# Altium integrated library Oscillators - Crystals.IntLib: 746 symbols (part 17 of 17)
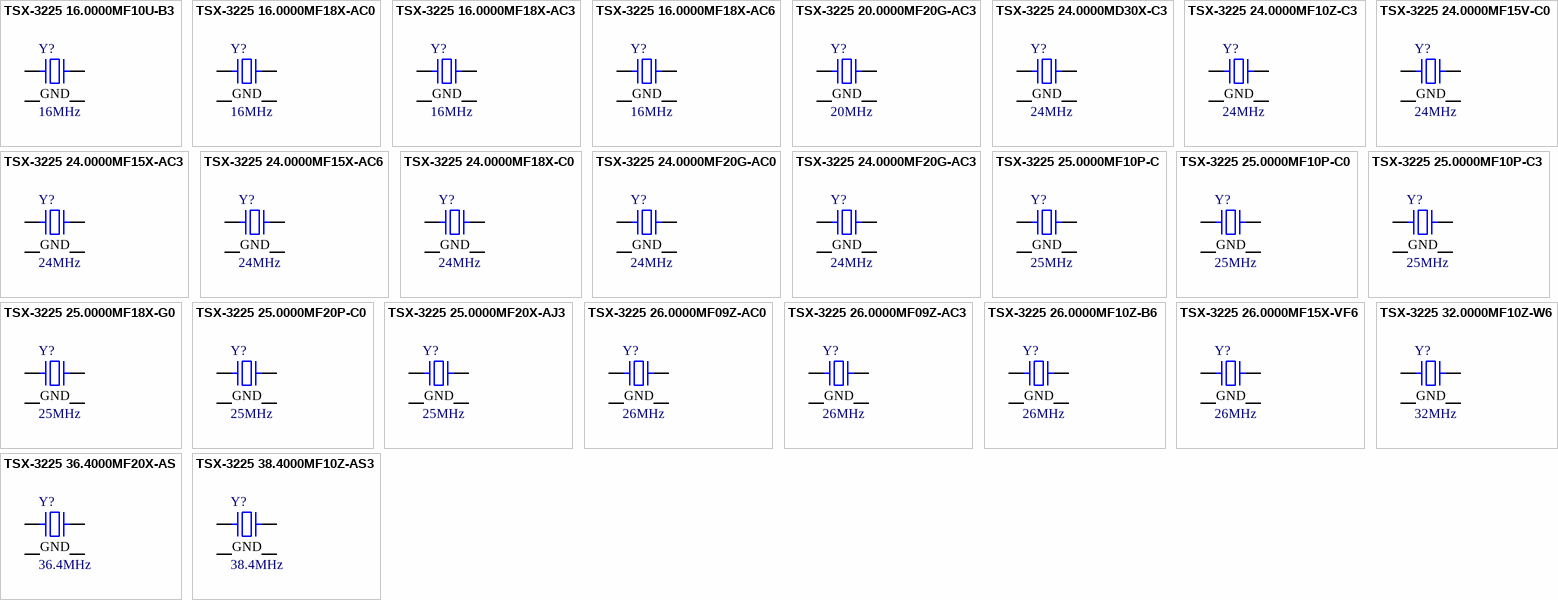
[diagram p34: symbols TSX-3225 16.0000MF10U-B3 to TSX-3225 38.4000MF10Z-AS3]

## TSX-3225 16.0000MF18X-AC3
designator Y?, comment 16MHz
CRYSTAL 16.0000MHZ 9PF SMD; Part Number: TSX-3225 16.0000MF18X-AC3; Manufacturer: EPSON; ESR (Equivalent Series Resistance): 60 Ohms; Frequency Stability: ±18ppm; Frequency Tolerance: ±10ppm; Operating Mode: Fundamental; ComponentLink1Description: Datasheet; ComponentLink1URL: https://support.epson.biz/td/api/doc_check.php?dl=brief_TSX-3225&lang=en; ComponentLink2Description: DigiKey Link; ComponentLink2URL: http://digikey.com/product-detail/en/epson/TSX-3225-16.0000MF18X-AC3/SER3636CT-ND/1825448; Frequency: 16MHz; Height - Seated (Max): 0.024" (0.60mm); LastUpdated: 9/2/2020 1:21:55 AM; Lifecycle Status: Active; Load Capacitance: 9pF; Minimum Order: 1; Mounting Type: Surface Mount; Operating Temperature: -40°C ~ 85°C; Package / Case: 4-SMD, No Lead; Packaging: TapeAndReel; PartId: 443; Part Status: Active; Price: 0.22; Series: TSX-3225; Size / Dimension: 0.126" L x 0.098" W (3.20mm x 2.50mm); Supplier 1: DigiKey; Supplier Part Number 1: SER3636CT-ND; Type: MHz Crystal; Value: 16MHz
footprint EPSON TSX-3225
pins: 1, 2 GND, 3, 4 GND

## TSX-3225 16.0000MF18X-AC6
designator Y?, comment 16MHz
CRYSTAL 16.00 MHZ 9.0PF SMD; Part Number: TSX-3225 16.0000MF18X-AC6; Manufacturer: EPSON; ESR (Equivalent Series Resistance): 60 Ohms; Frequency Stability: ±18ppm; Frequency Tolerance: ±10ppm; Load Capacitance: 9pF; Operating Mode: Fundamental; ComponentLink1Description: Datasheet; ComponentLink1URL: https://support.epson.biz/td/api/doc_check.php?dl=brief_TSX-3225&lang=en; ComponentLink2Description: DigiKey Link; ComponentLink2URL: http://digikey.com/product-detail/en/epson/TSX-3225-16.0000MF18X-AC6/SER4372CT-ND/7932356; Frequency: 16MHz; Height - Seated (Max): 0.024" (0.60mm); LastUpdated: 9/2/2020 1:21:55 AM; Lifecycle Status: Active; Minimum Order: 1; Mounting Type: Surface Mount; Operating Temperature: -40°C ~ 85°C; Package / Case: 4-SMD, No Lead; Packaging: TapeAndReel; PartId: 434; Part Status: Active; Price: 0.18; Series: TSX-3225; Size / Dimension: 0.126" L x 0.098" W (3.20mm x 2.50mm); Supplier 1: DigiKey; Supplier Part Number 1: SER4372CT-ND; Type: MHz Crystal; Value: 16MHz
footprint EPSON TSX-3225
pins: 1, 2 GND, 3, 4 GND

## TSX-3225 20.0000MF20G-AC3
designator Y?, comment 20MHz
CRYSTAL 20.0000MHZ 9PF SMD; Part Number: TSX-3225 20.0000MF20G-AC3; Manufacturer: EPSON; ESR (Equivalent Series Resistance): 60 Ohms; Frequency Stability: ±20ppm; Frequency Tolerance: ±10ppm; Operating Mode: Fundamental; ComponentLink1Description: Datasheet; ComponentLink1URL: https://support.epson.biz/td/api/doc_check.php?dl=brief_TSX-3225&lang=en; ComponentLink2Description: DigiKey Link; ComponentLink2URL: http://digikey.com/product-detail/en/epson/TSX-3225-20.0000MF20G-AC3/SER3629CT-ND/1802880; Frequency: 20MHz; Height - Seated (Max): 0.024" (0.60mm); LastUpdated: 9/2/2020 1:21:54 AM; Lifecycle Status: Active; Load Capacitance: 9pF; Minimum Order: 1; Mounting Type: Surface Mount; Operating Temperature: -40°C ~ 105°C; Package / Case: 4-SMD, No Lead; Packaging: TapeAndReel; PartId: 453; Part Status: Active; Price: 0.22; Series: TSX-3225; Size / Dimension: 0.126" L x 0.098" W (3.20mm x 2.50mm); Supplier 1: DigiKey; Supplier Part Number 1: SER3629CT-ND; Type: MHz Crystal; Value: 20MHz
footprint EPSON TSX-3225
pins: 1, 2 GND, 3, 4 GND

## TSX-3225 24.0000MD30X-C3
designator Y?, comment 24MHz
CRYSTAL 24.00MHZ 18PF SMD; Part Number: TSX-3225 24.0000MD30X-C3; Manufacturer: EPSON; ESR (Equivalent Series Resistance): 60 Ohms; Frequency Stability: ±30ppm; Operating Mode: Fundamental; ComponentLink1Description: Datasheet; ComponentLink1URL: https://support.epson.biz/td/api/doc_check.php?dl=brief_TSX-3225&lang=en; ComponentLink2Description: DigiKey Link; ComponentLink2URL: http://digikey.com/product-detail/en/epson/TSX-3225-24.0000MD30X-C3/SER4127CT-ND/6217482; Frequency: 24MHz; Frequency Tolerance: ±30ppm; Height - Seated (Max): 0.024" (0.60mm); LastUpdated: 9/2/2020 1:21:54 AM; Lifecycle Status: Active; Load Capacitance: 18pF; Minimum Order: 1; Mounting Type: Surface Mount; Operating Temperature: -40°C ~ 85°C; Package / Case: 4-SMD, No Lead; Packaging: TapeAndReel; PartId: 452; Part Status: Active; Price: 0.40; Series: TSX-3225; Size / Dimension: 0.126" L x 0.098" W (3.20mm x 2.50mm); Supplier 1: DigiKey; Supplier Part Number 1: SER4127CT-ND; Type: MHz Crystal; Value: 24MHz
footprint EPSON TSX-3225
pins: 1, 2 GND, 3, 4 GND

## TSX-3225 24.0000MF10Z-C3
designator Y?, comment 24MHz
CRYSTAL 24.00 MHZ 18PFSMD; Part Number: TSX-3225 24.0000MF10Z-C3; Manufacturer: EPSON; ESR (Equivalent Series Resistance): 40 Ohms; Frequency Stability: ±10ppm; Load Capacitance: 18pF; Operating Mode: Fundamental; ComponentLink1Description: Datasheet; ComponentLink1URL: https://support.epson.biz/td/api/doc_check.php?dl=brief_TSX-3225&lang=en; ComponentLink2Description: DigiKey Link; ComponentLink2URL: http://digikey.com/product-detail/en/epson/TSX-3225-24.0000MF10Z-C3/SER4373CT-ND/7932357; Frequency: 24MHz; Frequency Tolerance: ±10ppm; Height - Seated (Max): 0.024" (0.60mm); LastUpdated: 9/2/2020 1:21:55 AM; Lifecycle Status: Active; Minimum Order: 1; Mounting Type: Surface Mount; Operating Temperature: -20°C ~ 75°C; Package / Case: 4-SMD, No Lead; Packaging: TapeAndReel; PartId: 430; Part Status: Active; Price: 0.22; Series: TSX-3225; Size / Dimension: 0.126" L x 0.098" W (3.20mm x 2.50mm); Supplier 1: DigiKey; Supplier Part Number 1: SER4373CT-ND; Type: MHz Crystal; Value: 24MHz
footprint EPSON TSX-3225
pins: 1, 2 GND, 3, 4 GND

## TSX-3225 24.0000MF15V-C0
designator Y?, comment 24MHz
CRYSTAL 24.0000MHZ 18PF SMD; Part Number: TSX-3225 24.0000MF15V-C0; Manufacturer: EPSON; ESR (Equivalent Series Resistance): 40 Ohms; Frequency Tolerance: ±10ppm; Operating Mode: Fundamental; ComponentLink1Description: Datasheet; ComponentLink1URL: https://support.epson.biz/td/api/doc_check.php?dl=brief_TSX-3225&lang=en; ComponentLink2Description: DigiKey Link; ComponentLink2URL: http://digikey.com/product-detail/en/epson/TSX-3225-24.0000MF15V-C0/SER4209CT-ND/7430964; Frequency: 24MHz; Height - Seated (Max): 0.024" (0.60mm); LastUpdated: 9/2/2020 1:21:54 AM; Lifecycle Status: Active; Load Capacitance: 18pF; Minimum Order: 1; Mounting Type: Surface Mount; Package / Case: 4-SMD, No Lead; Packaging: TapeAndReel; PartId: 449; Part Status: Active; Price: 0.18; Series: TSX-3225; Size / Dimension: 0.126" L x 0.098" W (3.20mm x 2.50mm); Supplier 1: DigiKey; Supplier Part Number 1: SER4209CT-ND; Type: MHz Crystal; Value: 24MHz
footprint EPSON TSX-3225
pins: 1, 2 GND, 3, 4 GND

## TSX-3225 24.0000MF15X-AC3
designator Y?, comment 24MHz
CRYSTAL 24.0000MHZ 9PF SMD; Part Number: TSX-3225 24.0000MF15X-AC3; Manufacturer: EPSON; ESR (Equivalent Series Resistance): 40 Ohms; Frequency Stability: ±15ppm; Frequency Tolerance: ±10ppm; Operating Mode: Fundamental; ComponentLink1Description: Datasheet; ComponentLink1URL: https://support.epson.biz/td/api/doc_check.php?dl=brief_TSX-3225&lang=en; ComponentLink2Description: DigiKey Link; ComponentLink2URL: http://digikey.com/product-detail/en/epson/TSX-3225-24.0000MF15X-AC3/SER3635CT-ND/1825447; Frequency: 24MHz; Height - Seated (Max): 0.024" (0.60mm); LastUpdated: 9/2/2020 1:21:55 AM; Lifecycle Status: Active; Load Capacitance: 9pF; Minimum Order: 1; Mounting Type: Surface Mount; Operating Temperature: -40°C ~ 85°C; Package / Case: 4-SMD, No Lead; Packaging: TapeAndReel; PartId: 441; Part Status: Active; Price: 0.22; Series: TSX-3225; Size / Dimension: 0.126" L x 0.098" W (3.20mm x 2.50mm); Supplier 1: DigiKey; Supplier Part Number 1: SER3635CT-ND; Type: MHz Crystal; Value: 24MHz
footprint EPSON TSX-3225
pins: 1, 2 GND, 3, 4 GND

## TSX-3225 24.0000MF15X-AC6
designator Y?, comment 24MHz
CRYSTAL 24.00 MHZ 9.0PF SMD; Part Number: TSX-3225 24.0000MF15X-AC6; Manufacturer: EPSON; ESR (Equivalent Series Resistance): 40 Ohms; Frequency Stability: ±15ppm; Frequency Tolerance: ±10ppm; Load Capacitance: 9pF; Operating Mode: Fundamental; ComponentLink1Description: Datasheet; ComponentLink1URL: https://support.epson.biz/td/api/doc_check.php?dl=brief_TSX-3225&lang=en; ComponentLink2Description: DigiKey Link; ComponentLink2URL: http://digikey.com/product-detail/en/epson/TSX-3225-24.0000MF15X-AC6/SER4180CT-ND/6558821; Frequency: 24MHz; Height - Seated (Max): 0.024" (0.60mm); LastUpdated: 9/2/2020 1:21:55 AM; Lifecycle Status: Active; Minimum Order: 1; Mounting Type: Surface Mount; Operating Temperature: -40°C ~ 85°C; Package / Case: 4-SMD, No Lead; Packaging: TapeAndReel; PartId: 432; Part Status: Active; Price: 0.18; Series: TSX-3225; Size / Dimension: 0.126" L x 0.098" W (3.20mm x 2.50mm); Supplier 1: DigiKey; Supplier Part Number 1: SER4180CT-ND; Type: MHz Crystal; Value: 24MHz
footprint EPSON TSX-3225
pins: 1, 2 GND, 3, 4 GND

## TSX-3225 24.0000MF18X-C0
designator Y?, comment 24MHz
CRYSTAL 24.0000MHZ 18PF SMD; Part Number: TSX-3225 24.0000MF18X-C0; Manufacturer: EPSON; ESR (Equivalent Series Resistance): 40 Ohms; Frequency Stability: ±18ppm; Frequency Tolerance: ±10ppm; Operating Mode: Fundamental; ComponentLink1Description: Datasheet; ComponentLink1URL: https://support.epson.biz/td/api/doc_check.php?dl=brief_TSX-3225&lang=en; ComponentLink2Description: DigiKey Link; ComponentLink2URL: http://digikey.com/product-detail/en/epson/TSX-3225-24.0000MF18X-C0/SER4210CT-ND/7430965; Frequency: 24MHz; Height - Seated (Max): 0.024" (0.60mm); LastUpdated: 9/2/2020 1:21:54 AM; Lifecycle Status: Active; Load Capacitance: 18pF; Minimum Order: 1; Mounting Type: Surface Mount; Operating Temperature: -40°C ~ 85°C; Package / Case: 4-SMD, No Lead; Packaging: TapeAndReel; PartId: 448; Part Status: Active; Price: 0.18; Series: TSX-3225; Size / Dimension: 0.126" L x 0.098" W (3.20mm x 2.50mm); Supplier 1: DigiKey; Supplier Part Number 1: SER4210CT-ND; Type: MHz Crystal; Value: 24MHz
footprint EPSON TSX-3225
pins: 1, 2 GND, 3, 4 GND

## TSX-3225 24.0000MF20G-AC0
designator Y?, comment 24MHz
CRYSTAL 24.0000MHZ 9PF SMD; Part Number: TSX-3225 24.0000MF20G-AC0; Manufacturer: EPSON; ESR (Equivalent Series Resistance): 40 Ohms; Frequency Stability: ±20ppm; Frequency Tolerance: ±10ppm; Operating Mode: Fundamental; ComponentLink1Description: Datasheet; ComponentLink1URL: https://support.epson.biz/td/api/doc_check.php?dl=brief_TSX-3225&lang=en; ComponentLink2Description: DigiKey Link; ComponentLink2URL: http://digikey.com/product-detail/en/epson/TSX-3225-24.0000MF20G-AC0/SER4185CT-ND/6614145; Frequency: 24MHz; Height - Seated (Max): 0.024" (0.60mm); LastUpdated: 9/2/2020 1:21:54 AM; Lifecycle Status: Active; Load Capacitance: 9pF; Minimum Order: 1; Mounting Type: Surface Mount; Operating Temperature: -40°C ~ 105°C; Package / Case: 4-SMD, No Lead; Packaging: TapeAndReel; PartId: 454; Part Status: Active; Price: 0.18; Series: TSX-3225; Size / Dimension: 0.126" L x 0.098" W (3.20mm x 2.50mm); Supplier 1: DigiKey; Supplier Part Number 1: SER4185CT-ND; Type: MHz Crystal; Value: 24MHz
footprint EPSON TSX-3225
pins: 1, 2 GND, 3, 4 GND

## TSX-3225 24.0000MF20G-AC3
designator Y?, comment 24MHz
CRYSTAL 24.0000MHZ 9PF SMD; Part Number: TSX-3225 24.0000MF20G-AC3; Manufacturer: EPSON; ESR (Equivalent Series Resistance): 40 Ohms; Frequency Stability: ±20ppm; Frequency Tolerance: ±10ppm; Operating Mode: Fundamental; ComponentLink1Description: Datasheet; ComponentLink1URL: https://support.epson.biz/td/api/doc_check.php?dl=brief_TSX-3225&lang=en; ComponentLink2Description: DigiKey Link; ComponentLink2URL: http://digikey.com/product-detail/en/epson/TSX-3225-24.0000MF20G-AC3/SER3634CT-ND/1825446; Frequency: 24MHz; Height - Seated (Max): 0.024" (0.60mm); LastUpdated: 9/2/2020 1:21:55 AM; Lifecycle Status: Active; Load Capacitance: 9pF; Minimum Order: 1; Mounting Type: Surface Mount; Operating Temperature: -40°C ~ 105°C; Package / Case: 4-SMD, No Lead; Packaging: TapeAndReel; PartId: 440; Part Status: Active; Price: 0.22; Series: TSX-3225; Size / Dimension: 0.126" L x 0.098" W (3.20mm x 2.50mm); Supplier 1: DigiKey; Supplier Part Number 1: SER3634CT-ND; Type: MHz Crystal; Value: 24MHz
footprint EPSON TSX-3225
pins: 1, 2 GND, 3, 4 GND

## TSX-3225 25.0000MF10P-C
designator Y?, comment 25MHz
CRYSTAL 25.0000MHZ 18PF SMD; Part Number: TSX-3225 25.0000MF10P-C; Manufacturer: EPSON; ESR (Equivalent Series Resistance): 40 Ohms; Frequency Stability: ±10ppm; Operating Mode: Fundamental; ComponentLink1Description: Datasheet; ComponentLink1URL: https://support.epson.biz/td/api/doc_check.php?dl=brief_TSX-3225&lang=en; ComponentLink2Description: DigiKey Link; ComponentLink2URL: http://digikey.com/product-detail/en/epson/TSX-3225-25.0000MF10P-C/TSX-322525.0000MF10P-C-ND/7731870; Frequency: 25MHz; Frequency Tolerance: ±10ppm; Height - Seated (Max): 0.024" (0.60mm); LastUpdated: 9/2/2020 1:21:54 AM; Lifecycle Status: Active; Load Capacitance: 18pF; Minimum Order: 1; Mounting Type: Surface Mount; Package / Case: 4-SMD, No Lead; Packaging: Unknown; PartId: 455; Part Status: Active; Price: 0.33; Series: TSX-3225; Size / Dimension: 0.126" L x 0.098" W (3.20mm x 2.50mm); Supplier 1: DigiKey; Supplier Part Number 1: TSX-322525.0000MF10P-C-ND; Type: MHz Crystal; Value: 25MHz
footprint EPSON TSX-3225
pins: 1, 2 GND, 3, 4 GND

## TSX-3225 25.0000MF10P-C0
designator Y?, comment 25MHz
CRYSTAL 25.0000MHZ 18PF SMD; Part Number: TSX-3225 25.0000MF10P-C0; Manufacturer: EPSON; ESR (Equivalent Series Resistance): 40 Ohms; Frequency Stability: ±10ppm; Operating Mode: Fundamental; ComponentLink1Description: Datasheet; ComponentLink1URL: https://support.epson.biz/td/api/doc_check.php?dl=brief_TSX-3225&lang=en; ComponentLink2Description: DigiKey Link; ComponentLink2URL: http://digikey.com/product-detail/en/epson/TSX-3225-25.0000MF10P-C0/SER4211CT-ND/7430966; Frequency: 25MHz; Frequency Tolerance: ±10ppm; Height - Seated (Max): 0.024" (0.60mm); LastUpdated: 9/2/2020 1:21:54 AM; Lifecycle Status: Active; Load Capacitance: 18pF; Minimum Order: 1; Mounting Type: Surface Mount; Operating Temperature: -20°C ~ 85°C; Package / Case: 4-SMD, No Lead; Packaging: TapeAndReel; PartId: 450; Part Status: Active; Price: 0.18; Series: TSX-3225; Size / Dimension: 0.126" L x 0.098" W (3.20mm x 2.50mm); Supplier 1: DigiKey; Supplier Part Number 1: SER4211CT-ND; Type: MHz Crystal; Value: 25MHz
footprint EPSON TSX-3225
pins: 1, 2 GND, 3, 4 GND

## TSX-3225 25.0000MF10P-C3
designator Y?, comment 25MHz
CRYSTAL 25.00 MHZ 18.0PF SMD; Part Number: TSX-3225 25.0000MF10P-C3; Manufacturer: EPSON; ESR (Equivalent Series Resistance): 40 Ohms; Frequency Stability: ±10ppm; Load Capacitance: 18pF; Operating Mode: Fundamental; ComponentLink1Description: Datasheet; ComponentLink1URL: https://support.epson.biz/td/api/doc_check.php?dl=brief_TSX-3225&lang=en; ComponentLink2Description: DigiKey Link; ComponentLink2URL: http://digikey.com/product-detail/en/epson/TSX-3225-25.0000MF10P-C3/SER4374CT-ND/7932358; Frequency: 25MHz; Frequency Tolerance: ±10ppm; Height - Seated (Max): 0.024" (0.60mm); LastUpdated: 9/2/2020 1:21:54 AM; Lifecycle Status: Active; Minimum Order: 1; Mounting Type: Surface Mount; Operating Temperature: -20°C ~ 85°C; Package / Case: 4-SMD, No Lead; Packaging: TapeAndReel; PartId: 445; Part Status: Active; Price: 0.22; Series: TSX-3225; Size / Dimension: 0.126" L x 0.098" W (3.20mm x 2.50mm); Supplier 1: DigiKey; Supplier Part Number 1: SER4374CT-ND; Type: MHz Crystal; Value: 25MHz
footprint EPSON TSX-3225
pins: 1, 2 GND, 3, 4 GND

## TSX-3225 25.0000MF18X-G0
designator Y?, comment 25MHz
CRYSTAL 25.00 MHZ 20.0PF SMD; Part Number: TSX-3225 25.0000MF18X-G0; Manufacturer: EPSON; ESR (Equivalent Series Resistance): 40 Ohms; Frequency Stability: ±18ppm; Frequency Tolerance: ±10ppm; Load Capacitance: 20pF; Operating Mode: Fundamental; ComponentLink1Description: Datasheet; ComponentLink1URL: https://support.epson.biz/td/api/doc_check.php?dl=brief_TSX-3225&lang=en; ComponentLink2Description: DigiKey Link; ComponentLink2URL: http://digikey.com/product-detail/en/epson/TSX-3225-25.0000MF18X-G0/SER4375CT-ND/7932359; Frequency: 25MHz; Height - Seated (Max): 0.024" (0.60mm); LastUpdated: 9/2/2020 1:21:55 AM; Lifecycle Status: Active; Minimum Order: 1; Mounting Type: Surface Mount; Operating Temperature: -40°C ~ 85°C; Package / Case: 4-SMD, No Lead; Packaging: TapeAndReel; PartId: 427; Part Status: Active; Price: 0.18; Series: TSX-3225; Size / Dimension: 0.126" L x 0.098" W (3.20mm x 2.50mm); Supplier 1: DigiKey; Supplier Part Number 1: SER4375CT-ND; Type: MHz Crystal; Value: 25MHz
footprint EPSON TSX-3225
pins: 1, 2 GND, 3, 4 GND

## TSX-3225 25.0000MF20P-C0
designator Y?, comment 25MHz
CRYSTAL 25.0000MHZ 18PF SMD; Part Number: TSX-3225 25.0000MF20P-C0; Manufacturer: EPSON; ESR (Equivalent Series Resistance): 40 Ohms; Frequency Stability: ±20ppm; Frequency Tolerance: ±10ppm; Operating Mode: Fundamental; ComponentLink1Description: Datasheet; ComponentLink1URL: https://support.epson.biz/td/api/doc_check.php?dl=brief_TSX-3225&lang=en; ComponentLink2Description: DigiKey Link; ComponentLink2URL: http://digikey.com/product-detail/en/epson/TSX-3225-25.0000MF20P-C0/SER4212CT-ND/7430967; Frequency: 25MHz; Height - Seated (Max): 0.024" (0.60mm); LastUpdated: 9/2/2020 1:21:54 AM; Lifecycle Status: Active; Load Capacitance: 18pF; Minimum Order: 1; Mounting Type: Surface Mount; Operating Temperature: -20°C ~ 85°C; Package / Case: 4-SMD, No Lead; Packaging: TapeAndReel; PartId: 447; Part Status: Active; Price: 0.18; Series: TSX-3225; Size / Dimension: 0.126" L x 0.098" W (3.20mm x 2.50mm); Supplier 1: DigiKey; Supplier Part Number 1: SER4212CT-ND; Type: MHz Crystal; Value: 25MHz
footprint EPSON TSX-3225
pins: 1, 2 GND, 3, 4 GND

## TSX-3225 25.0000MF20X-AJ3
designator Y?, comment 25MHz
CRYSTAL 25.00 MHZ 8.0PF SMD; Part Number: TSX-3225 25.0000MF20X-AJ3; Manufacturer: EPSON; ESR (Equivalent Series Resistance): 40 Ohms; Frequency Stability: ±20ppm; Frequency Tolerance: ±10ppm; Load Capacitance: 8pF; Operating Mode: Fundamental; ComponentLink1Description: Datasheet; ComponentLink1URL: https://support.epson.biz/td/api/doc_check.php?dl=brief_TSX-3225&lang=en; ComponentLink2Description: DigiKey Link; ComponentLink2URL: http://digikey.com/product-detail/en/epson/TSX-3225-25.0000MF20X-AJ3/SER4376CT-ND/7932360; Frequency: 25MHz; Height - Seated (Max): 0.024" (0.60mm); LastUpdated: 9/2/2020 1:21:55 AM; Lifecycle Status: Active; Minimum Order: 1; Mounting Type: Surface Mount; Operating Temperature: -40°C ~ 85°C; Package / Case: 4-SMD, No Lead; Packaging: TapeAndReel; PartId: 431; Part Status: Active; Price: 0.22; Series: TSX-3225; Size / Dimension: 0.126" L x 0.098" W (3.20mm x 2.50mm); Supplier 1: DigiKey; Supplier Part Number 1: SER4376CT-ND; Type: MHz Crystal; Value: 25MHz
footprint EPSON TSX-3225
pins: 1, 2 GND, 3, 4 GND

## TSX-3225 26.0000MF09Z-AC0
designator Y?, comment 26MHz
CRYSTAL 26.00 MHZ 9.0PF SMD; Part Number: TSX-3225 26.0000MF09Z-AC0; Manufacturer: EPSON; ESR (Equivalent Series Resistance): 40 Ohms; Frequency Stability: ±9ppm; Frequency Tolerance: ±10ppm; Load Capacitance: 9pF; Operating Mode: Fundamental; ComponentLink1Description: Datasheet; ComponentLink1URL: https://support.epson.biz/td/api/doc_check.php?dl=brief_TSX-3225&lang=en; ComponentLink2Description: DigiKey Link; ComponentLink2URL: http://digikey.com/product-detail/en/epson/TSX-3225-26.0000MF09Z-AC0/SER4105CT-ND/6204903; Frequency: 26MHz; Height - Seated (Max): 0.024" (0.60mm); LastUpdated: 9/2/2020 1:21:55 AM; Lifecycle Status: Active; Minimum Order: 1; Mounting Type: Surface Mount; Operating Temperature: -20°C ~ 75°C; Package / Case: 4-SMD, No Lead; Packaging: TapeAndReel; PartId: 438; Part Status: Active; Price: 0.18; Series: TSX-3225; Size / Dimension: 0.126" L x 0.098" W (3.20mm x 2.50mm); Supplier 1: DigiKey; Supplier Part Number 1: SER4105CT-ND; Type: MHz Crystal; Value: 26MHz
footprint EPSON TSX-3225
pins: 1, 2 GND, 3, 4 GND

## TSX-3225 26.0000MF09Z-AC3
designator Y?, comment 26MHz
CRYSTAL 26.0000MHZ 9PF SMD; Part Number: TSX-3225 26.0000MF09Z-AC3; Manufacturer: EPSON; ESR (Equivalent Series Resistance): 40 Ohms; Frequency Stability: ±9ppm; Frequency Tolerance: ±10ppm; Operating Mode: Fundamental; ComponentLink1Description: Datasheet; ComponentLink1URL: https://support.epson.biz/td/api/doc_check.php?dl=brief_FA-238V&lang=en; ComponentLink2Description: DigiKey Link; ComponentLink2URL: http://digikey.com/product-detail/en/epson/TSX-3225-26.0000MF09Z-AC3/SER3627CT-ND/1802878; Frequency: 26MHz; Height - Seated (Max): 0.024" (0.60mm); LastUpdated: 9/2/2020 1:21:55 AM; Lifecycle Status: Active; Load Capacitance: 9pF; Minimum Order: 1; Mounting Type: Surface Mount; Operating Temperature: -20°C ~ 75°C; Package / Case: 4-SMD, No Lead; Packaging: TapeAndReel; PartId: 429; Part Status: Active; Price: 0.22; Series: TSX-3225; Size / Dimension: 0.126" L x 0.098" W (3.20mm x 2.50mm); Supplier 1: DigiKey; Supplier Part Number 1: SER3627CT-ND; Type: MHz Crystal; Value: 26MHz
footprint EPSON TSX-3225
pins: 1, 2 GND, 3, 4 GND

## TSX-3225 26.0000MF10Z-B6
designator Y?, comment 26MHz
CRYSTAL 26.0000MHZ 16PF SMD; Part Number: TSX-3225 26.0000MF10Z-B6; Manufacturer: EPSON; ESR (Equivalent Series Resistance): 40 Ohms; Frequency Stability: ±10ppm; Operating Mode: Fundamental; ComponentLink1Description: Datasheet; ComponentLink1URL: https://support.epson.biz/td/api/doc_check.php?dl=brief_TSX-3225&lang=en; ComponentLink2Description: DigiKey Link; ComponentLink2URL: http://digikey.com/product-detail/en/epson/TSX-3225-26.0000MF10Z-B6/SER4213CT-ND/7430968; Frequency: 26MHz; Frequency Tolerance: ±10ppm; Height - Seated (Max): 0.024" (0.60mm); LastUpdated: 9/2/2020 1:21:55 AM; Lifecycle Status: Active; Load Capacitance: 16pF; Minimum Order: 1; Mounting Type: Surface Mount; Operating Temperature: -20°C ~ 75°C; Package / Case: 4-SMD, No Lead; Packaging: TapeAndReel; PartId: 437; Part Status: Active; Price: 0.18; Series: TSX-3225; Size / Dimension: 0.126" L x 0.098" W (3.20mm x 2.50mm); Supplier 1: DigiKey; Supplier Part Number 1: SER4213CT-ND; Type: MHz Crystal; Value: 26MHz
footprint EPSON TSX-3225
pins: 1, 2 GND, 3, 4 GND

## TSX-3225 26.0000MF15X-VF6
designator Y?, comment 26MHz
CRYSTAL 26.00 MHZ 9.8PF SMD; Part Number: TSX-3225 26.0000MF15X-VF6; Manufacturer: EPSON; ESR (Equivalent Series Resistance): 40 Ohms; Frequency Stability: ±15ppm; Frequency Tolerance: ±10ppm; Operating Mode: Fundamental; ComponentLink1Description: Datasheet; ComponentLink1URL: https://support.epson.biz/td/api/doc_check.php?dl=brief_TSX-3225&lang=en; ComponentLink2Description: DigiKey Link; ComponentLink2URL: http://digikey.com/product-detail/en/epson/TSX-3225-26.0000MF15X-VF6/SER4377CT-ND/7932361; Frequency: 26MHz; Height - Seated (Max): 0.024" (0.60mm); LastUpdated: 9/2/2020 1:21:55 AM; Lifecycle Status: Active; Load Capacitance: 9.8pF; Minimum Order: 1; Mounting Type: Surface Mount; Operating Temperature: -40°C ~ 85°C; Package / Case: 4-SMD, No Lead; Packaging: TapeAndReel; PartId: 439; Part Status: Active; Price: 0.18; Series: TSX-3225; Size / Dimension: 0.126" L x 0.098" W (3.20mm x 2.50mm); Supplier 1: DigiKey; Supplier Part Number 1: SER4377CT-ND; Type: MHz Crystal; Value: 26MHz
footprint EPSON TSX-3225
pins: 1, 2 GND, 3, 4 GND

## TSX-3225 32.0000MF10Z-W6
designator Y?, comment 32MHz
CRYSTAL 32.00 MHZ 12.0PF SMD; Part Number: TSX-3225 32.0000MF10Z-W6; Manufacturer: EPSON; ESR (Equivalent Series Resistance): 40 Ohms; Frequency Stability: ±10ppm; Load Capacitance: 12pF; Operating Mode: Fundamental; ComponentLink1Description: Datasheet; ComponentLink1URL: https://support.epson.biz/td/api/doc_check.php?dl=brief_TSX-3225&lang=en; ComponentLink2Description: DigiKey Link; ComponentLink2URL: http://digikey.com/product-detail/en/epson/TSX-3225-32.0000MF10Z-W6/SER4378CT-ND/7932362; Frequency: 32MHz; Frequency Tolerance: ±10ppm; Height - Seated (Max): 0.024" (0.60mm); LastUpdated: 9/2/2020 1:21:55 AM; Lifecycle Status: Active; Minimum Order: 1; Mounting Type: Surface Mount; Operating Temperature: -20°C ~ 75°C; Package / Case: 4-SMD, No Lead; Packaging: TapeAndReel; PartId: 428; Part Status: Active; Price: 0.18; Series: TSX-3225; Size / Dimension: 0.126" L x 0.098" W (3.20mm x 2.50mm); Supplier 1: DigiKey; Supplier Part Number 1: SER4378CT-ND; Type: MHz Crystal; Value: 32MHz
footprint EPSON TSX-3225
pins: 1, 2 GND, 3, 4 GND

## TSX-3225 36.4000MF20X-AS
designator Y?, comment 36.4MHz
CRYSTAL 36.4000MHZ 8.5PF SMD; Part Number: TSX-3225 36.4000MF20X-AS; Manufacturer: EPSON; ESR (Equivalent Series Resistance): 40 Ohms; Frequency Stability: ±20ppm; Frequency Tolerance: ±10ppm; Operating Mode: Fundamental; ComponentLink1Description: Datasheet; ComponentLink1URL: https://support.epson.biz/td/api/doc_check.php?dl=brief_TSX-3225&lang=en; ComponentLink2Description: DigiKey Link; ComponentLink2URL: http://digikey.com/product-detail/en/epson/TSX-3225-36.4000MF20X-AS/SER4214-ND/7430949; Frequency: 36.4MHz; Height - Seated (Max): 0.024" (0.60mm); LastUpdated: 9/2/2020 1:21:54 AM; Lifecycle Status: Active; Load Capacitance: 8.5pF; Minimum Order: 1; Mounting Type: Surface Mount; Operating Temperature: -40°C ~ 85°C; Package / Case: 4-SMD, No Lead; Packaging: Bulk; PartId: 446; Part Status: Active; Price: 0.33; Series: TSX-3225; Size / Dimension: 0.126" L x 0.098" W (3.20mm x 2.50mm); Supplier 1: DigiKey; Supplier Part Number 1: SER4214-ND; Type: MHz Crystal; Value: 36.4MHz
footprint EPSON TSX-3225
pins: 1, 2 GND, 3, 4 GND

## TSX-3225 38.4000MF10Z-AS3
designator Y?, comment 38.4MHz
CRYSTAL 38.4000MHZ 8.5PF SMD; Part Number: TSX-3225 38.4000MF10Z-AS3; Manufacturer: EPSON; ESR (Equivalent Series Resistance): 40 Ohms; Frequency Stability: ±10ppm; Operating Mode: Fundamental; ComponentLink1Description: Datasheet; ComponentLink1URL: https://support.epson.biz/td/api/doc_check.php?dl=brief_TSX-3225&lang=en; ComponentLink2Description: DigiKey Link; ComponentLink2URL: http://digikey.com/product-detail/en/epson/TSX-3225-38.4000MF10Z-AS3/SER3625CT-ND/1802876; Frequency: 38.4MHz; Frequency Tolerance: ±10ppm; Height - Seated (Max): 0.024" (0.60mm); LastUpdated: 9/2/2020 1:21:55 AM; Lifecycle Status: Active; Load Capacitance: 8.5pF; Minimum Order: 1; Mounting Type: Surface Mount; Operating Temperature: -20°C ~ 75°C; Package / Case: 4-SMD, No Lead; Packaging: TapeAndReel; PartId: 442; Part Status: Active; Price: 0.22; Series: TSX-3225; Size / Dimension: 0.126" L x 0.098" W (3.20mm x 2.50mm); Supplier 1: DigiKey; Supplier Part Number 1: SER3625CT-ND; Type: MHz Crystal; Value: 38.4MHz
footprint EPSON TSX-3225
pins: 1, 2 GND, 3, 4 GND